# EAGLE library part MICRO_B (library con-usb)
Micro USB Type B
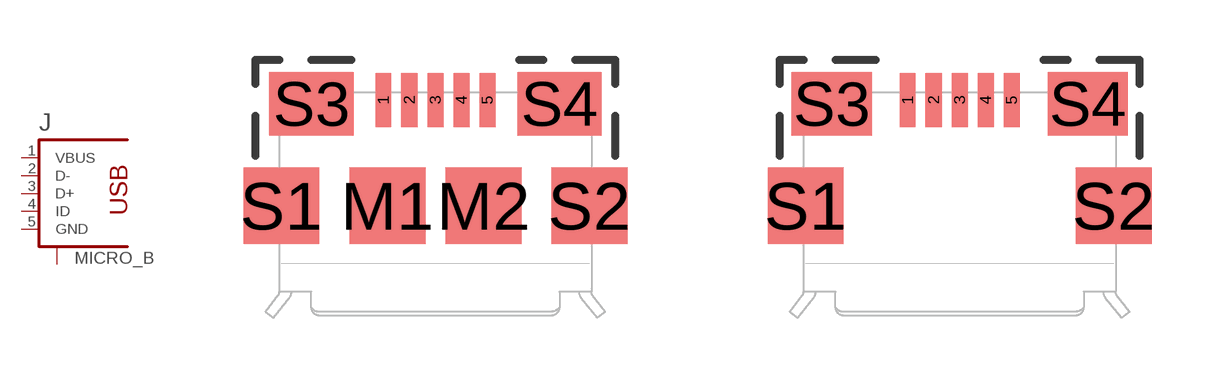
[diagram p16: symbol with the pads of 10118192-0001LF; footprints 10118192-0001LF, 10118192-0001LF-M]

Designator prefix J

## MICRO_B-10118192-0001LF (MFPN: 10118192-0001LF; PARTNO: 29-100857-00)  [10118192-0001LF]
1  VBUS  pas
2  D-  pas
3  D+  pas
4  ID  pas
5  GND  pas
S1  S1  pas
S2  S2  pas
S3  S3  pas
S4  S4  pas

## MICRO_B-10118192-0001LF-M (MFPN: 10118192-0001LF; PARTNO: 29-100857-00)  [10118192-0001LF-M]
Pads as for 10118192-0001LF

## Footprint 10118192-0001LF (pad centres in mm)
Receptacle, micro-USB, type B, FCI Datasheet <http://portal.fciconnect.com/Comergent//fci/drawing/10118192.pdf>
smd 0.4 x 1.35: 1 -1.3,4.1; 2 -0.65,4.1; 3 0,4.1; 4 0.65,4.1; 5 1.3,4.1
smd 1.9 x 1.9: M1 -1.2,1.45; M2 1.2,1.45; S1 -3.85,1.45; S2 3.85,1.45
smd 2.1 x 1.6: S3 -3.1,4; S4 3.1,4

## Footprint 10118192-0001LF-M (pad centres in mm)
Receptacle, micro-USB, type B, FCI (Modified Footprint) Datasheet <http://portal.fciconnect.com/Comergent//fci/drawing/10118192.pdf>
smd 0.4 x 1.35: 1 -1.3,4.1; 2 -0.65,4.1; 3 0,4.1; 4 0.65,4.1; 5 1.3,4.1
smd 1.9 x 1.9: S1 -3.85,1.45; S2 3.85,1.45
smd 2 x 1.6: S3 -3.2,4; S4 3.2,4